# Altium footprint library L_13x13mm.PcbLib: 1 footprints
Each footprint in its own frame and in the unit in brackets; x right, y up, seen from the top. Pads: shape width x height; smd on the part's side, far side on the other; paste and mask are expansions set on the pad; w line width, h text height; cw(c..) or ccw(c..) is an arc to the next point about the centre after c.
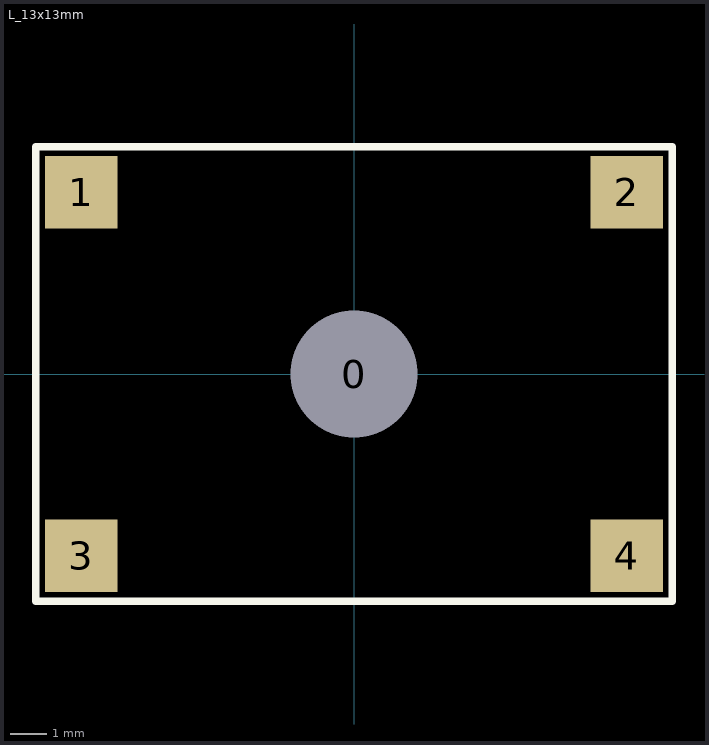
[diagram p0: the footprint, top view; thin cyan lines are the x and y axes]

## L_13x13mm [mm]
height 0.55
pads (5):
  round 2 hole 3.5: 0(0,0)
  rect 2x2 smd: 1(-7.5,5) 2(7.5,5) 3(-7.5,-5) 4(7.5,-5)
Top Overlay:
  lines w0.2: -8.75,-6.25 8.75,-6.25 8.75,6.25 -8.75,6.25 -8.75,-6.25
Top Assembly:
  lines w0.1: -0.25,0 0.25,0 ; 0,-0.25 0,0.25 ; -8.75,-6.25 8.75,-6.25 8.75,6.25 -8.75,6.25 -8.75,-6.25
  text "'.Designator'" at 0,0 h0.7
3D body "Синфазнй дроссель 15мм.STEP": height 7.5, standoff -6.79, extent -12.603,-12.561 12.603,12.561